# Altium schematic symbol library WE-LLCR.SchLib: 9 symbols
Pins are listed as number, name and electrical type; pins without a type are passive.

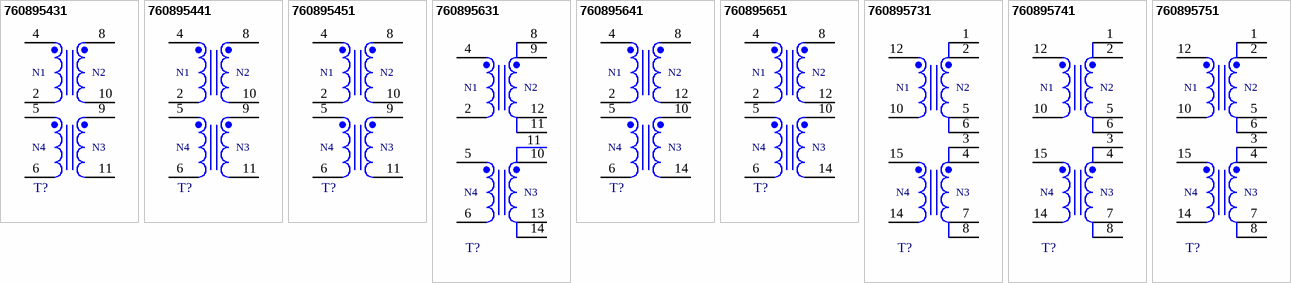
[diagram p0: symbols 760895431 to 760895751]

## 760895431
designator T?, comment 360-400Vin, 12Vout, 150W  (value not drawn)
WE-LLCR Resonant Converter, THT, ETD34, 360-400Vin, 12Vout, 150W; Manufacturer Part Number: 760895431; Manufacturer: Wurth Elektronik; Auxiliary Voltage: 18V; Inductance: 600uH; Leakage Inductance: 100uH; Output Current: 12.5A; Output Voltage: 12V; Saturation Current: 2A; Switching Frequency: 70-120kHz; Turns Ratio: 35:2:2:3; Category: Transformers For AC-DC Converter; Match Code: WE-LLCR; ComponentLink1Description: Website Link; ComponentLink1URL: https://www.we-online.com/redexpert/article/760895431?ad; ComponentLink2Description: Datasheet Link; ComponentLink2URL: https://www.we-online.com/redexpert/spec/760895431?ad; Mount: Through Hole; Operating Temperature Max: 125°C; Operating Temperature Min: -40°C; Packaging: Tray; Case/Size Code: ETD34; Length: 36mm; Width: 36mm; Height: 26mm; Input Voltage: 360-400V; Output Power: 150W
footprint WE-LLCR_ETD34
simulation model 760895431
pins: 2, 4, 5, 6, 8, 9, 10, 11
text: N1; N2; N4; N3

## 760895441
designator T?, comment 360-400Vin, 24Vout, 150W  (value not drawn)
WE-LLCR Resonant Converter, THT, ETD34, 360-400Vin, 24Vout, 150W; Manufacturer Part Number: 760895441; Manufacturer: Wurth Elektronik; Auxiliary Voltage: 18V; Inductance: 600uH; Leakage Inductance: 100uH; Output Current: 6.2A; Output Voltage: 24V; Saturation Current: 2A; Switching Frequency: 70-120kHz; Turns Ratio: 35:4:4:3; Category: Transformers For AC-DC Converter; Match Code: WE-LLCR; ComponentLink1Description: Website Link; ComponentLink1URL: https://www.we-online.com/redexpert/article/760895441?ad; ComponentLink2Description: Datasheet Link; ComponentLink2URL: https://www.we-online.com/redexpert/spec/760895441?ad; Mount: Through Hole; Operating Temperature Max: 125°C; Operating Temperature Min: -40°C; Packaging: Tray; Case/Size Code: ETD34; Length: 36mm; Width: 36mm; Height: 26mm; Input Voltage: 360-400V; Output Power: 150W
footprint WE-LLCR_ETD34
simulation model 760895441
pins: 2, 4, 5, 6, 8, 9, 10, 11
text: N1; N2; N4; N3

## 760895451
designator T?, comment 360-400Vin, 48Vout, 150W  (value not drawn)
WE-LLCR Resonant Converter, THT, ETD34, 360-400Vin, 48Vout, 150W; Manufacturer Part Number: 760895451; Manufacturer: Wurth Elektronik; Auxiliary Voltage: 18V; Inductance: 600uH; Leakage Inductance: 100uH; Output Current: 3.1A; Output Voltage: 48V; Saturation Current: 2A; Switching Frequency: 70-120kHz; Turns Ratio: 35:8:8:3; Category: Transformers For AC-DC Converter; Match Code: WE-LLCR; ComponentLink1Description: Website Link; ComponentLink1URL: https://www.we-online.com/redexpert/article/760895451?ad; ComponentLink2Description: Datasheet Link; ComponentLink2URL: https://www.we-online.com/redexpert/spec/760895451?ad; Mount: Through Hole; Operating Temperature Max: 125°C; Operating Temperature Min: -40°C; Packaging: Tray; Case/Size Code: ETD34; Length: 36mm; Width: 36mm; Height: 26mm; Input Voltage: 360-400V; Output Power: 150W
footprint WE-LLCR_ETD34
simulation model 760895451
pins: 2, 4, 5, 6, 8, 9, 10, 11
text: N1; N2; N4; N3

## 760895631
designator T?, comment 360-400Vin, 12Vout, 200W  (value not drawn)
WE-LLCR Resonant Converter, THT, ETD39, 360-400Vin, 12Vout, 200W; Manufacturer Part Number: 760895631; Manufacturer: Wurth Elektronik; Auxiliary Voltage: 18V; Inductance: 500uH; Leakage Inductance: 95uH; Output Current: 16.7A; Output Voltage: 12V; Saturation Current: 3.5A; Switching Frequency: 70-120kHz; Turns Ratio: 35:2:2:3; Category: Transformers For AC-DC Converter; Match Code: WE-LLCR; ComponentLink1Description: Website Link; ComponentLink1URL: https://www.we-online.com/redexpert/article/760895631?ad; ComponentLink2Description: Datasheet Link; ComponentLink2URL: https://www.we-online.com/redexpert/spec/760895631?ad; Mount: Through Hole; Operating Temperature Max: 125°C; Operating Temperature Min: -40°C; Packaging: Tray; Case/Size Code: ETD39; Length: 44mm; Width: 43mm; Height: 30mm; Input Voltage: 360-400V; Output Power: 200W
footprint WE-LLCR_ETD39
pins: 2, 4, 5, 6, 8, 9, 10, 11, 12, 13, 14
text: N1; N2; N4; N3

## 760895641
designator T?, comment 360-400Vin, 24Vout, 200W  (value not drawn)
WE-LLCR Resonant Converter, THT, ETD39, 360-400Vin, 24Vout, 200W; Manufacturer Part Number: 760895641; Manufacturer: Wurth Elektronik; Auxiliary Voltage: 18V; Inductance: 500uH; Leakage Inductance: 95uH; Output Current: 8.3A; Output Voltage: 24V; Saturation Current: 3.5A; Switching Frequency: 70-120kHz; Turns Ratio: 35:4:4:3; Category: Transformers For AC-DC Converter; Match Code: WE-LLCR; ComponentLink1Description: Website Link; ComponentLink1URL: https://www.we-online.com/redexpert/article/760895641?ad; ComponentLink2Description: Datasheet Link; ComponentLink2URL: https://www.we-online.com/redexpert/spec/760895641?ad; Mount: Through Hole; Operating Temperature Max: 125°C; Operating Temperature Min: -40°C; Packaging: Tray; Case/Size Code: ETD39; Length: 44mm; Width: 43mm; Height: 30mm; Input Voltage: 360-400V; Output Power: 200W
footprint WE-LLCR_ETD39
simulation model 760895641
pins: 2, 4, 5, 6, 8, 10, 12, 14
text: N1; N2; N4; N3

## 760895651
designator T?, comment 360-400Vin, 48Vout, 200W  (value not drawn)
WE-LLCR Resonant Converter, THT, ETD39, 360-400Vin, 48Vout, 200W; Manufacturer Part Number: 760895651; Manufacturer: Wurth Elektronik; Auxiliary Voltage: 18V; Inductance: 500uH; Leakage Inductance: 95uH; Output Current: 4.2A; Output Voltage: 48V; Saturation Current: 3.5A; Switching Frequency: 70-120kHz; Turns Ratio: 35:8:8:3; Category: Transformers For AC-DC Converter; Match Code: WE-LLCR; ComponentLink1Description: Website Link; ComponentLink1URL: https://www.we-online.com/redexpert/article/760895651?ad; ComponentLink2Description: Datasheet Link; ComponentLink2URL: https://www.we-online.com/redexpert/spec/760895651?ad; Mount: Through Hole; Operating Temperature Max: 125°C; Operating Temperature Min: -40°C; Packaging: Tray; Case/Size Code: ETD39; Length: 44mm; Width: 43mm; Height: 30mm; Input Voltage: 360-400V; Output Power: 200W
footprint WE-LLCR_ETD39
simulation model 760895651
pins: 2, 4, 5, 6, 8, 10, 12, 14
text: N1; N2; N4; N3

## 760895731
designator T?, comment 360-400Vin, 12Vout, 250W  (value not drawn)
WE-LLCR Resonant Converter, THT, ETD44, 360-400Vin, 12Vout, 250W; Manufacturer Part Number: 760895731; Manufacturer: Wurth Elektronik; Auxiliary Voltage: 18V; Inductance: 475uH; Leakage Inductance: 100uH; Output Current: 20.8A; Output Voltage: 12V; Saturation Current: 5A; Switching Frequency: 70-120kHz; Turns Ratio: 35:2:2:3; Category: Transformers For AC-DC Converter; Match Code: WE-LLCR; ComponentLink1Description: Website Link; ComponentLink1URL: https://www.we-online.com/redexpert/article/760895731?ad; ComponentLink2Description: Datasheet Link; ComponentLink2URL: https://www.we-online.com/redexpert/spec/760895731?ad; Mount: Through Hole; Operating Temperature Max: 125°C; Operating Temperature Min: -40°C; Packaging: Tray; Case/Size Code: ETD44; Length: 48mm; Width: 46mm; Height: 27.5mm; Input Voltage: 360-400V; Output Power: 250W
footprint WE-LLCR_ETD44
simulation model 760895731
pins: 1, 2, 3, 4, 5, 6, 7, 8, 10, 12, 14, 15
text: N1; N2; N4; N3

## 760895741
designator T?, comment 360-400Vin, 24Vout, 250W  (value not drawn)
WE-LLCR Resonant Converter, THT, ETD44, 360-400Vin, 24Vout, 250W; Manufacturer Part Number: 760895741; Manufacturer: Wurth Elektronik; Auxiliary Voltage: 16V; Inductance: 400uH; Leakage Inductance: 65uH; Output Current: 10.4A; Output Voltage: 24V; Saturation Current: 4.3A; Switching Frequency: 70-120kHz; Turns Ratio: 27:3:3:2; Category: Transformers For AC-DC Converter; Match Code: WE-LLCR; ComponentLink1Description: Website Link; ComponentLink1URL: https://www.we-online.com/redexpert/article/760895741?ad; ComponentLink2Description: Datasheet Link; ComponentLink2URL: https://www.we-online.com/redexpert/spec/760895741?ad; Mount: Through Hole; Operating Temperature Max: 125°C; Operating Temperature Min: -40°C; Packaging: Tray; Case/Size Code: ETD44; Length: 48mm; Width: 46mm; Height: 27.5mm; Input Voltage: 360-400V; Output Power: 250W
footprint WE-LLCR_ETD44
simulation model 760895741
pins: 1, 2, 3, 4, 5, 6, 7, 8, 10, 12, 14, 15
text: N1; N2; N4; N3

## 760895751
designator T?, comment 360-400Vin, 48Vout, 250W  (value not drawn)
WE-LLCR Resonant Converter, THT, ETD44, 360-400Vin, 48Vout, 250W; Manufacturer Part Number: 760895751; Manufacturer: Wurth Elektronik; Auxiliary Voltage: 16V; Inductance: 400uH; Leakage Inductance: 65uH; Output Current: 5.2A; Output Voltage: 48V; Saturation Current: 4.3A; Switching Frequency: 70-120kHz; Turns Ratio: 35:6:6:2; Category: Transformers For AC-DC Converter; Match Code: WE-LLCR; ComponentLink1Description: Website Link; ComponentLink1URL: https://www.we-online.com/redexpert/article/760895751?ad; ComponentLink2Description: Datasheet Link; ComponentLink2URL: https://www.we-online.com/redexpert/spec/760895751?ad; Mount: Through Hole; Operating Temperature Max: 125°C; Operating Temperature Min: -40°C; Packaging: Tray; Case/Size Code: ETD44; Length: 48mm; Width: 46mm; Height: 27.5mm; Input Voltage: 360-400V; Output Power: 250W
footprint WE-LLCR_ETD44
simulation model 760895751
pins: 1, 2, 3, 4, 5, 6, 7, 8, 10, 12, 14, 15
text: N1; N2; N4; N3